# EAGLE library part 5-534237-8 (library Common-Parts-Library-Eagle)
Conn Socket Strip SKT 10 POS 2.54mm Solder ST Thru-Hole Tube
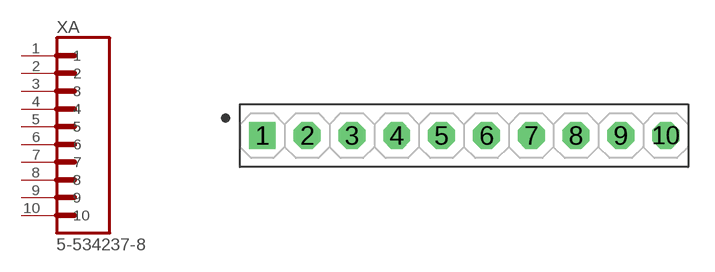
[diagram p14: symbol with the pads of TE_5-534237-8; footprint TE_5-534237-8]

Designator prefix XA

## 5-534237-8 (MANUFACTURER: TE Connectivity)  [TE_5-534237-8]
1  1  pas
2  2  pas
3  3  pas
4  4  pas
5  5  pas
6  6  pas
7  7  pas
8  8  pas
9  9  pas
10  10  pas

## Footprint TE_5-534237-8 (pad centres in mm)
drill 1.016 square: 1 -11.43,0
drill 1.016 octagon: 2 -8.89,0; 3 -6.35,0; 4 -3.81,0; 5 -1.27,0; 6 1.27,0; 7 3.81,0; 8 6.35,0; 9 8.89,0; 10 11.43,0